# Altium schematic symbol library Schlib1.SchLib: 2 symbols
Pins are listed as number, name and electrical type; pins without a type are passive.

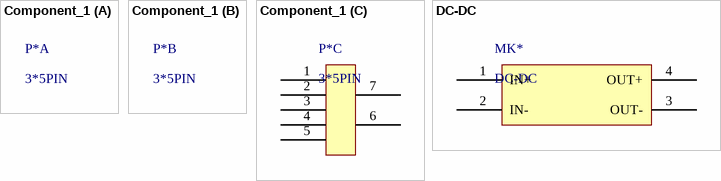
[diagram p0: symbols Component_1 to DC-DC]

## Component_1
designator P*, comment 3*5PIN
part C pins: 1 0, 2 1, 3 2, 4 3, 5 4, 6, 7

## DC-DC
designator MK*
pins: 1 IN+, 2 IN-, 3 OUT-, 4 OUT+